# Altium schematic symbol library 74HC595.SchLib: 1 symbol
Pins are listed as number, name and electrical type; pins without a type are passive.

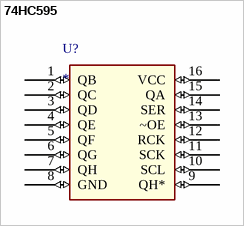
[diagram p0: symbol 74HC595]

## 74HC595
designator U?
footprint DIP16
pins: 1 QB (io), 2 QC (io), 3 QD (io), 4 QE (io), 5 QF (io), 6 QG (io), 7 QH (io), 8 GND (io), 9 QH* (io), 10 SCL (io), 11 SCK (io), 12 RCK (io), 13 ~OE (io), 14 SER (io), 15 QA (io), 16 VCC (io)